# Altium footprint library Capacitors.PcbLib: 25 footprints (part 2 of 2)
Each footprint in its own frame and in the unit in brackets; x right, y up, seen from the top. Pads: shape width x height; smd on the part's side, far side on the other; paste and mask are expansions set on the pad; w line width, h text height; cw(c..) or ccw(c..) is an arc to the next point about the centre after c.
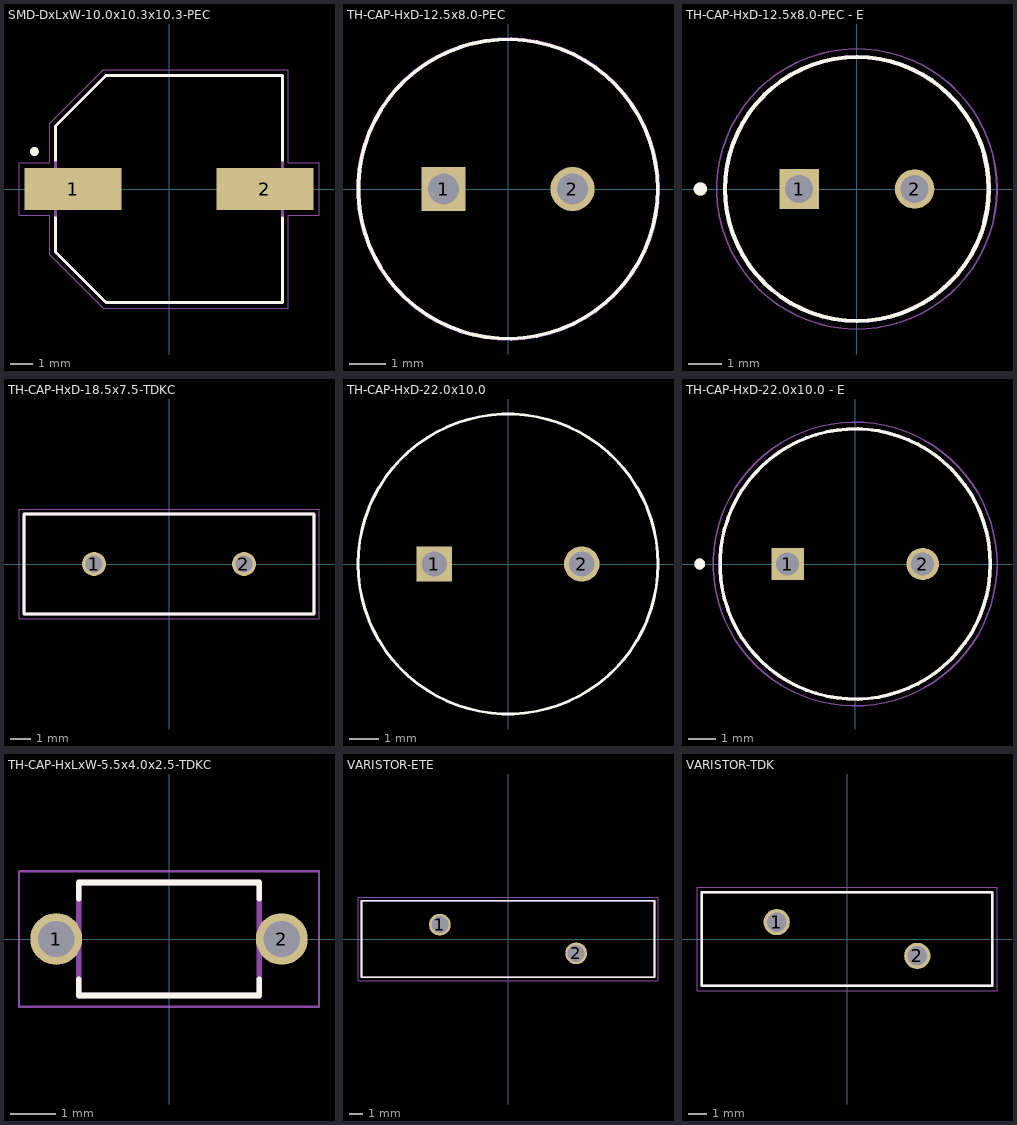
[diagram p1: the footprints below, top view; thin cyan lines are the x and y axes]

## SMD-DxLxW-10.0x10.3x10.3-PEC [mm]
pads (2):
  rect 4.4x1.9 smd: 1(-4.35,0) 2(4.35,0)
Top Overlay:
  circle w0.2: c-6.1,1.7 r0.1
  lines w0.127: -5.15,-1.3 -5.15,-2.85 -2.85,-5.15 5.15,-5.15 5.15,-1.3 ; -5.15,1.3 -5.15,2.85 -2.85,5.15 5.15,5.15 5.15,1.3
Mechanical 1:
  lines w0.127: -5.15,-2.85 -5.15,2.85 -2.85,5.15 5.15,5.15 5.15,-5.15 -2.85,-5.15 -5.15,-2.85
Mechanical 13:
  circle w0.2: c-6.1,1.7 r0.1
  lines w0.127: -5.15,-2.85 -5.15,2.85 -2.85,5.15 5.15,5.15 5.15,-5.15 -2.85,-5.15 -5.15,-2.85
Mechanical 15:
  lines w0.05: -6.8,-1.2 -6.8,1.2 -5.4,1.2 -5.4,2.975 -2.975,5.4 5.4,5.4 5.4,1.2 6.8,1.2 6.8,-1.2 5.4,-1.2 5.4,-5.4 -2.975,-5.4 -5.4,-2.975 -5.4,-1.2 -6.8,-1.2
Mechanical 29:
  lines w0.05: -6.8,-1.2 -6.8,1.2 -5.4,1.2 -5.4,2.975 -2.975,5.4 5.4,5.4 5.4,1.2 6.8,1.2 6.8,-1.2 5.4,-1.2 5.4,-5.4 -2.975,-5.4 -5.4,-2.975 -5.4,-1.2 -6.8,-1.2
  text "'.Designator'" at -1.778,-0.254 h0.7
3D body "16SVPF1000M.step": height 12.6, standoff 0, extent -5.5,-5.15 5.5,5.15

## TH-CAP-HxD-12.5x8.0-PEC [mm]
pads (2):
  rect 1.2x1.2 hole 0.85: 1(-1.75,0)
  round 1.2 hole 0.85: 2(1.75,0)
Top Overlay:
  circle w0.1: c0,0 r4.064
Mechanical 1:
  circle w0.1: c0,0 r4.072
Mechanical 13:
  circle w0.1: c0,0 r4.064
Mechanical 29:
  circle w0.1: c0,0 r4.072
3D body "step_temp.STEP": height 11.5, standoff -17, extent -4,-4 4,4

## TH-CAP-HxD-12.5x8.0-PEC - E [mm]
pads (2):
  rect 1.2x1.2 hole 0.85: 1(-1.75,0)
  round 1.2 hole 0.85: 2(1.75,0)
Top Overlay:
  circle w0.127: c0,0 r4
  circle w0.2: c-4.75,0 r0.1
Mechanical 13:
  circle w0.127: c0,0 r4
  circle w0.2: c-4.75,0 r0.1
Mechanical 15:
  circle w0.05: c0,0 r4.25
3D body "step_temp.STEP": height 11.5, standoff -17, extent -4,-4 4,4

## TH-CAP-HxD-18.5x7.5-TDKC [mm]
pads (2):
  round 1.2 hole 0.85: 1(-3.75,0) 2(3.75,0)
Top Overlay:
  lines w0.127: -7.25,-2.5 7.25,-2.5 7.25,2.5 -7.25,2.5 -7.25,-2.5
Mechanical 1:
  lines w0.127: -7.25,-2.5 -7.25,2.5 7.25,2.5 7.25,-2.5 -7.25,-2.5
Mechanical 13:
  lines w0.127: -7.25,-2.5 -7.25,2.5 7.25,2.5 7.25,-2.5 -7.25,-2.5
Mechanical 15:
  lines w0.05: -7.5,-2.75 -7.5,2.75 7.5,2.75 7.5,-2.75 -7.5,-2.75
Mechanical 29:
  lines w0.05: -7.5,-2.75 -7.5,2.75 7.5,2.75 7.5,-2.75 -7.5,-2.75
3D body "step_temp.STEP": height 20.5, standoff -19, extent -7.25,-2.498 7.25,2.498

## TH-CAP-HxD-22.0x10.0 [mm]
pads (2):
  rect 1.2x1.2 hole 0.85: 1(-2.5,0)
  round 1.2 hole 0.85: 2(2.5,0)
Top Overlay:
  circle w0.1: c0,0 r5.086
3D body "step_temp.STEP": height 20, standoff -17, extent -5,-5 5,5

## TH-CAP-HxD-22.0x10.0 - E [mm]
pads (2):
  rect 1.2x1.2 hole 0.85: 1(-2.5,0)
  round 1.2 hole 0.85: 2(2.5,0)
Top Overlay:
  circle w0.2: c-5.75,0 r0.1
  circle w0.127: c0,0 r5
Mechanical 1:
  circle w0.127: c0,0 r5
Mechanical 13:
  circle w0.2: c-5.75,0 r0.1
  circle w0.127: c0,0 r5
Mechanical 15:
  circle w0.05: c0,0 r5.25
Mechanical 29:
  circle w0.05: c0,0 r5.25
3D body "step_temp.STEP": height 20, standoff -17, extent -5,-5 5,5

## TH-CAP-HxLxW-5.5x4.0x2.5-TDKC [mm]
pads (2):
  round 1.15 hole 0.8: 1(-2.5,0) 2(2.5,0)
Top Overlay:
  lines w0.127: -2,-0.895 -2,-1.25 2,-1.25 2,-0.895 ; -2,0.895 -2,1.25 2,1.25 2,0.895
Mechanical 1:
  lines w0.127: -2,-1.25 2,-1.25 2,1.25 -2,1.25 -2,-1.25
Mechanical 13:
  lines w0.127: -2,-1.25 2,-1.25 2,1.25 -2,1.25 -2,-1.25
Mechanical 15:
  lines w0.05: -3.325,-1.5 3.325,-1.5 3.325,1.5 -3.325,1.5 -3.325,-1.5
Mechanical 29:
  lines w0.05: -3.325,-1.5 3.325,-1.5 3.325,1.5 -3.325,1.5 -3.325,-1.5
  text "'.Designator'" at -1.778,-0.254 h0.7
3D body "step_temp.STEP": height 5.5, standoff -9, extent -2.75,-1.25 2.75,1.25

## VARISTOR-ETE [mm]
pads (2):
  round 1.6 hole 1.25: 1(-5,1.05) 2(5,-1.05)
Top Overlay:
  lines w0.127: -10.75,-2.8 10.75,-2.8 10.75,2.8 -10.75,2.8 -10.75,-2.8
Mechanical 1:
  lines w0.127: -10.75,-2.8 -10.75,2.8 10.75,2.8 10.75,-2.8 -10.75,-2.8
Mechanical 13:
  lines w0.127: -10.75,-2.8 -10.75,2.8 10.75,2.8 10.75,-2.8 -10.75,-2.8
Mechanical 15:
  lines w0.05: -11,-3.05 -11,3.05 11,3.05 11,-3.05 -11,-3.05
Mechanical 29:
  lines w0.05: -11,-3.05 -11,3.05 11,3.05 11,-3.05 -11,-3.05
  text "'.Designator'" at -4.826,-1.016 h2
3D body "B72220S0301K101.step": height 26.5, standoff -24, extent -10.748,-2.7 10.748,2.7

## VARISTOR-TDK [mm]
pads (2):
  round 1.4 hole 1.05: 1(-3.75,0.9) 2(3.75,-0.9)
Top Overlay:
  lines w0.127: -7.75,-2.5 -7.75,2.5 7.75,2.5 7.75,-2.5 -7.75,-2.5
Mechanical 1:
  lines w0.127: -7.75,-2.5 7.75,-2.5 7.75,2.5 -7.75,2.5 -7.75,-2.5
Mechanical 13:
  lines w0.127: -7.75,-2.5 7.75,-2.5 7.75,2.5 -7.75,2.5 -7.75,-2.5
Mechanical 15:
  lines w0.05: -8,-2.75 8,-2.75 8,2.75 -8,2.75 -8,-2.75
Mechanical 29:
  lines w0.05: -8,-2.75 8,-2.75 8,2.75 -8,2.75 -8,-2.75
  text "'.Designator'" at -2.286,-0.508 h1
3D body "VARS_B72214S0271K101_TDK.step": height 16.49, standoff -3.29, extent -7.747,-2.502 7.747,2.502